# Altium footprint library CONN_jk.PcbLib: 55 footprints (part 3 of 4)
Each footprint in its own frame and in the unit in brackets; x right, y up, seen from the top. Pads: shape width x height; smd on the part's side, far side on the other; paste and mask are expansions set on the pad; w line width, h text height; cw(c..) or ccw(c..) is an arc to the next point about the centre after c.
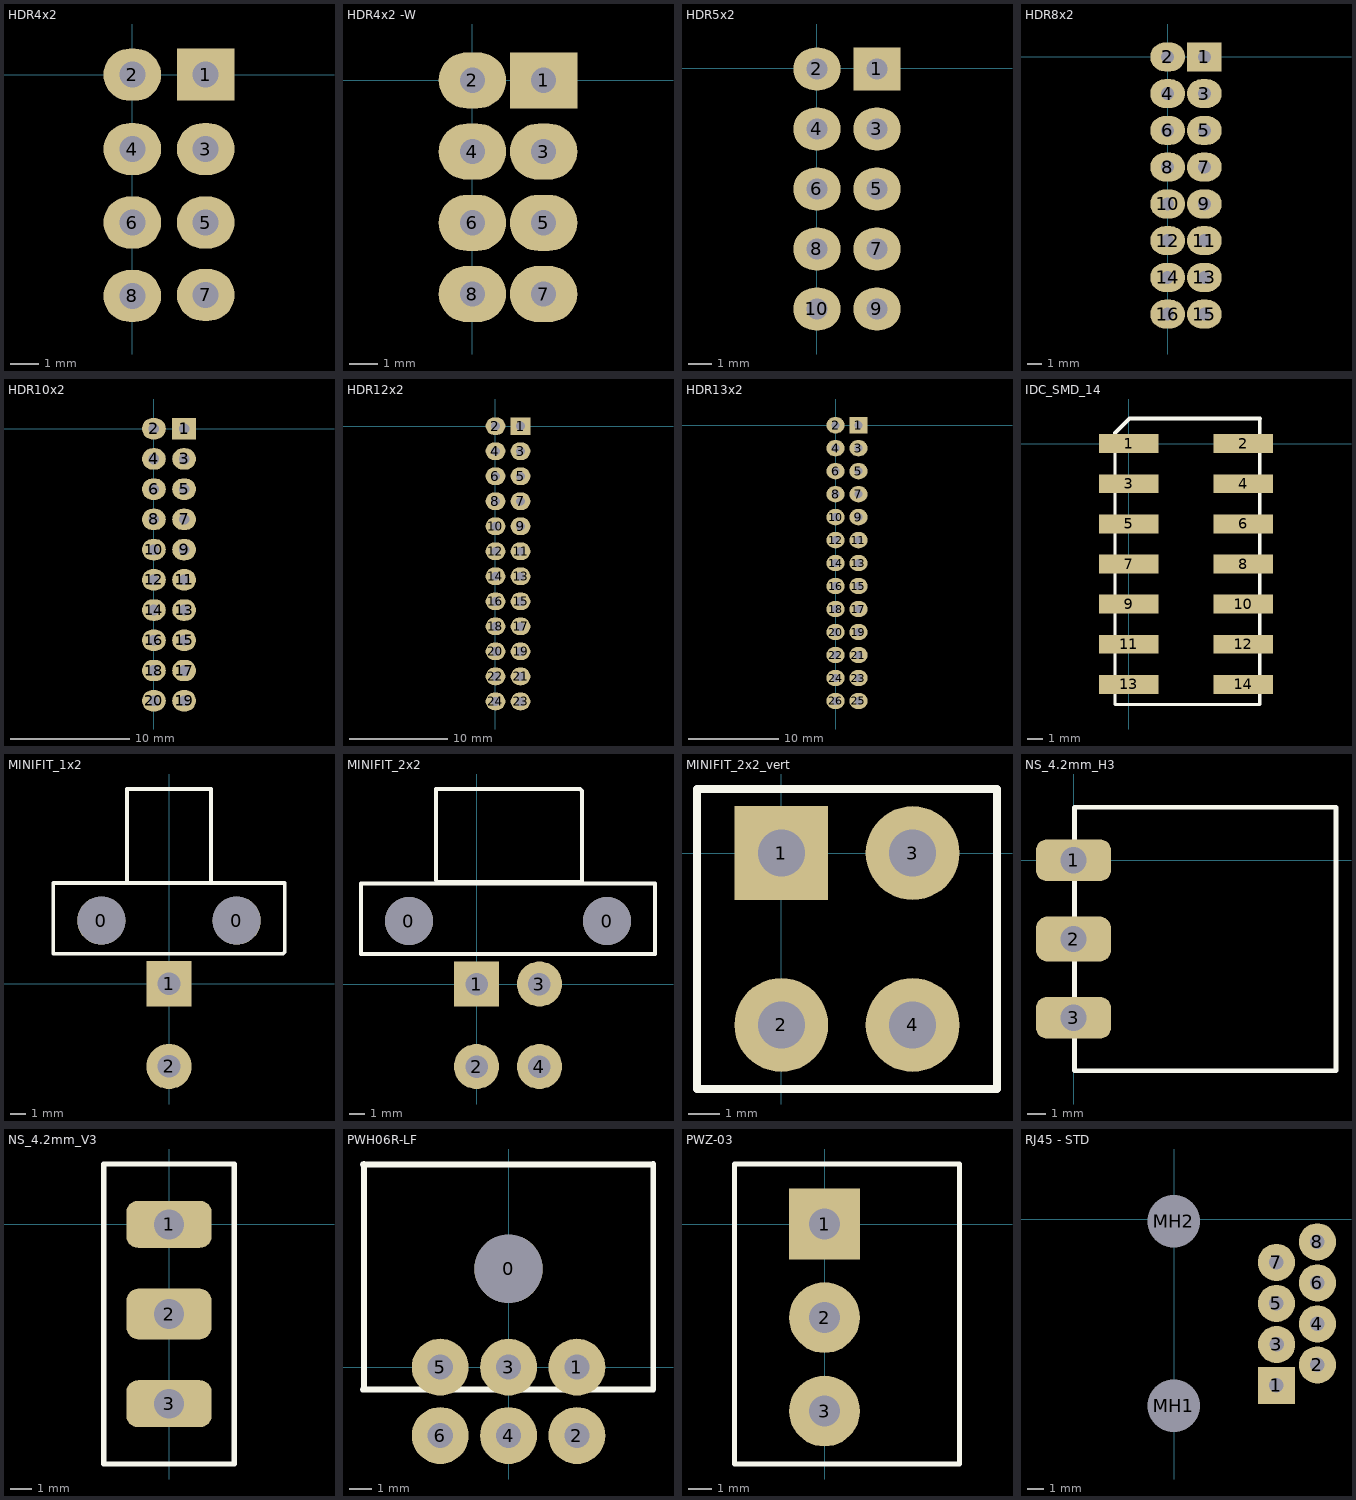
[diagram p2: the footprints below, top view; thin cyan lines are the x and y axes]

## HDR4x2 [mm]
pads (8):
  rect 2x1.8 hole 0.9: 1(2.54,0)
  oval 2x1.8 hole 0.9: 2(0,0) 3(2.54,-2.574) 4(0,-2.574) 5(2.54,-5.114) 6(0,-5.114) 7(2.54,-7.62) 8(0,-7.654)
Bottom Overlay:
  lines w0.2: -1.27,-9.144 3.81,-9.144 3.81,1.236 -1.27,1.236 -1.27,-9.144

## HDR4x2 -W [mm]
pads (8):
  rect 2.4x2 hole 0.9: 1(2.54,0)
  oval 2.4x2 hole 0.9: 2(0,0) 3(2.54,-2.54) 4(0,-2.54) 5(2.54,-5.08) 6(0,-5.08) 7(2.54,-7.62) 8(0,-7.62)
Bottom Overlay:
  lines w0.2: -1.27,-9.223 3.81,-9.223 3.81,1.475 -1.27,1.475 -1.27,-9.223

## HDR5x2 [mm]
pads (10):
  rect 2x1.8 hole 0.9: 1(2.54,-0.034)
  oval 2x1.8 hole 0.9: 2(0,-0.034) 3(2.54,-2.574) 4(0,-2.574) 5(2.54,-5.114) 6(0,-5.114) 7(2.54,-7.654) 8(0,-7.654) 9(2.54,-10.194) 10(0,-10.194)
Bottom Overlay:
  lines w0.2: -1.27,-11.464 3.81,-11.464 3.81,1.236 -1.27,1.236 -1.27,-11.464

## HDR8x2 [mm]
pads (16):
  rect 2.4x2 hole 0.9: 1(2.54,0)
  oval 2.4x2 hole 0.9: 2(0,0) 3(2.54,-2.54) 4(0,-2.54) 5(2.54,-5.08) 6(0,-5.08) 7(2.54,-7.62) 8(0,-7.62) 9(2.54,-10.16) 10(0,-10.16) 11(2.54,-12.7) 12(0,-12.7) 13(2.54,-15.24) 14(0,-15.24) 15(2.54,-17.78) 16(0,-17.78)
Bottom Overlay:
  lines w0.2: -1.27,-19.495 -1.27,1.236 3.81,1.236 3.81,-19.495 -1.27,-19.495

## HDR10x2 [mm]
pads (20):
  rect 2x1.8 hole 0.9: 1(2.54,0)
  oval 2x1.8 hole 0.9: 2(0,0) 3(2.54,-2.54) 4(0,-2.54) 5(2.54,-5.08) 6(0,-5.08) 7(2.54,-7.62) 8(0,-7.62) 9(2.54,-10.16) 10(0,-10.16) 11(2.54,-12.7) 12(0,-12.7) 13(2.54,-15.24) 14(0,-15.24) 15(2.54,-17.78) 16(0,-17.78) 17(2.54,-20.32) 18(0,-20.32) 19(2.54,-22.86) 20(0,-22.86)
Bottom Overlay:
  lines w0.2: -1.27,-23.975 -1.27,1.236 3.81,1.236 3.81,-23.975 -1.27,-23.975

## HDR12x2 [mm]
pads (24):
  rect 2x1.8 hole 0.9: 1(2.54,0)
  oval 2x1.8 hole 0.9: 2(0,0) 3(2.54,-2.54) 4(0,-2.54) 5(2.54,-5.08) 6(0,-5.08) 7(2.54,-7.62) 8(0,-7.62) 9(2.54,-10.16) 10(0,-10.16) 11(2.54,-12.7) 12(0,-12.7) 13(2.54,-15.24) 14(0,-15.24) 15(2.54,-17.78) 16(0,-17.78) 17(2.54,-20.32) 18(0,-20.32) 19(2.54,-22.86) 20(0,-22.86) 21(2.54,-25.4) 22(0,-25.4) 23(2.54,-27.94) 24(0,-27.94)
Bottom Overlay:
  lines w0.2: -1.27,-29.218 -1.27,1.236 3.81,1.236 3.81,-29.218 -1.27,-29.218

## HDR13x2 [mm]
pads (26):
  rect 2x1.8 hole 0.9: 1(2.54,0)
  oval 2x1.8 hole 0.9: 2(0,0) 3(2.54,-2.54) 4(0,-2.54) 5(2.54,-5.08) 6(0,-5.08) 7(2.54,-7.62) 8(0,-7.62) 9(2.54,-10.16) 10(0,-10.16) 11(2.54,-12.7) 12(0,-12.7) 13(2.54,-15.24) 14(0,-15.24) 15(2.54,-17.78) 16(0,-17.78) 17(2.54,-20.32) 18(0,-20.32) 19(2.54,-22.86) 20(0,-22.86) 21(2.54,-25.4) 22(0,-25.4) 23(2.54,-27.94) 24(0,-27.94) 25(2.54,-30.48) 26(0,-30.48)
Bottom Overlay:
  lines w0.2: -1.27,-31.917 -1.27,1.236 3.81,1.236 3.81,-31.917 -1.27,-31.917

## IDC_SMD_14 [mm]
pads (14):
  rect 3.75x1.2 smd: 1(0,0) 2(7.25,0) 3(0,-2.54) 4(7.25,-2.54) 5(0,-5.08) 6(7.25,-5.08) 7(0,-7.62) 8(7.25,-7.62) 9(0,-10.16) 10(7.25,-10.16) 11(0,-12.7) 12(7.25,-12.7) 13(0,-15.24) 14(7.25,-15.24)
Top Overlay:
  lines w0.2: -0.875,0.675 -0.875,-16.51 8.298,-16.51 8.298,1.6
  lines w0.254: -0.875,0.675 0.05,1.6 8.273,1.6 8.298,1.575

## MINIFIT_1x2 [mm]
pads (4):
  round 3.2 hole 3.2: 0(-4.5,4.2) 0(4.5,4.2)
  rect 3x3 hole 1.5: 1(0,0)
  round 3 hole 1.5: 2(0,-5.5)
Top Overlay:
  lines w0.254: -2.8,6.858 -2.8,12.954 2.794,12.954 ; 2.8,6.8 2.8,12.873 ; -7.7,2 -7.7,6.699 7.7,6.699 7.7,2.112 7.588,2 -7.7,2

## MINIFIT_2x2 [mm]
pads (6):
  round 3.2 hole 3.2: 0(-4.5,4.2) 0(8.7,4.2)
  rect 3x3 hole 1.5: 1(0,0)
  round 3 hole 1.5: 2(0,-5.5) 3(4.2,0) 4(4.2,-5.5)
Top Overlay:
  lines w0.254: -2.7,6.927 -2.7,13 6.9,13 7.027,12.873 7.027,6.8 -2.573,6.8 ; -7.7,2 11.9,2 11.9,6.699 -7.7,6.699 -7.7,2

## MINIFIT_2x2_vert [mm]
pads (4):
  rect 3x3 hole 1.5: 1(0,0)
  round 3 hole 1.5: 2(0,-5.5) 3(4.2,0) 4(4.2,-5.5)
Top Overlay:
  lines w0.254: -2.7,-7.55 -2.7,2.05 6.9,2.05 6.9,-7.55 -2.7,-7.55

## NS_4.2mm_H3 [mm]
pads (3):
  rrect50% 4x2.2 hole 1.4: 1(0,0) 3(0,-8.4)
  rrect50% 4x2.4 hole 1.4: 2(0,-4.2)
Top Overlay:
  lines w0.254: 0.05,-11.222 13.996,-11.222 13.996,2.824 0.05,2.824 0.05,-11.222

## NS_4.2mm_V3 [mm]
pads (3):
  rrect50% 4x2.2 hole 1.4: 1(0,0) 3(0,-8.4)
  rrect50% 4x2.4 hole 1.4: 2(0,-4.2)
Top Overlay:
  lines w0.254: -3.049,-11.222 3.049,-11.222 3.049,2.824 -3.049,2.824 -3.049,-11.222

## PWH06R-LF [mm]
pads (7):
  round 3 hole 3: 0(0,4.32)
  round 2.5 hole 1.1: 1(3,0) 2(3,-3) 3(0,0) 4(0,-3) 5(-3,0) 6(-3,-3)
Top Overlay:
  lines w0.254: -6.398,-0.975 6.348,-0.975 ; -6.398,8.898 6.348,8.9 ; -6.35,-0.975 -6.35,8.923 ; 6.35,-0.975 6.35,8.923

## PWZ-03 [mm]
pads (3):
  rect 3x3 hole 1.3: 1(0,0)
  round 3 hole 1.3: 2(0,-3.96) 3(0,-7.92)
Top Overlay:
  lines w0.2: -3.81,-10.16 5.715,-10.16 5.715,2.54 -3.81,2.54 -3.81,-10.16

## RJ45 - STD [mm]
pads (10):
  rect 2.3x2.3 hole 0.9: 1(6.334,-10.285)
  round 2.3 hole 0.9: 2(8.874,-9.015) 3(6.35,-7.747) 4(8.874,-6.475) 5(6.334,-5.205) 6(8.874,-3.935) 7(6.334,-2.665) 8(8.874,-1.395)
  round 2.95 hole 3.25 unplated: MH1(-0.016,-11.555) MH2(-0.016,-0.125)
Bottom Overlay:
  lines w0.2: -8.548,-14.671 -8.548,2.949 10.024,2.949 10.024,-14.621 -8.548,-14.621